# Altium schematic symbol library ADL5562.SchLib: 1 symbol
Pins are listed as number, name and electrical type; pins without a type are passive.

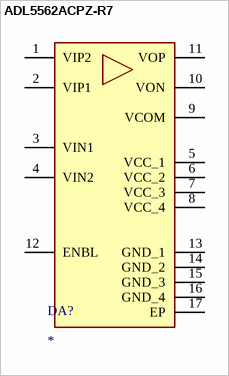
[diagram p0: symbol ADL5562ACPZ-R7]

## ADL5562ACPZ-R7
designator DA?
Integrated Circuit; Manufacturer_Name: Analog Devices; Manufacturer_Part_Number: ADL5562ACPZ-R7; Datasheet Link: https://ms.componentsearchengine.com/Datasheets/2/ADL5561ACPZ-R7.pdf; Height: 1mm; Mouser Part Number: 584-ADL5562ACPZ-R7; Mouser Price/Stock: https://www.mouser.co.uk/ProductDetail/Analog-Devices/ADL5561ACPZ-R7?qs=BpaRKvA4VqHipewmzJxUmg%3D%3D; Arrow Part Number: ADL5562ACPZ-R7; Arrow Price/Stock: https://www.arrow.com/en/products/adl5561acpz-r7/maxim-integrated?region=nac
footprint QFN50P300X300X100-17N-D
pins: 1 VIP2, 2 VIP1, 3 VIN1, 4 VIN2, 5 VCC_1, 6 VCC_2, 7 VCC_3, 8 VCC_4, 9 VCOM, 10 VON, 11 VOP, 12 ENBL, 13 GND_1, 14 GND_2, 15 GND_3, 16 GND_4, 17 EP